# Altium integrated library 330R_0603.IntLib: 1 symbol
Pins are listed as number, name and electrical type; pins without a type are passive.

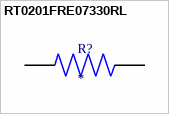
[diagram p0: symbol RT0201FRE07330RL]

## RT0201FRE07330RL
designator R?
MP: RT0201FRE07330RL; Package: None; Price: None; Value: *; Availability: Unavailable
footprint RESC0603X26N
pins: 1, 2